# EAGLE library part MAX86916EFD+T (library max86916)
Max86916 eagle component, it's a ppg sensor with 4 different leds
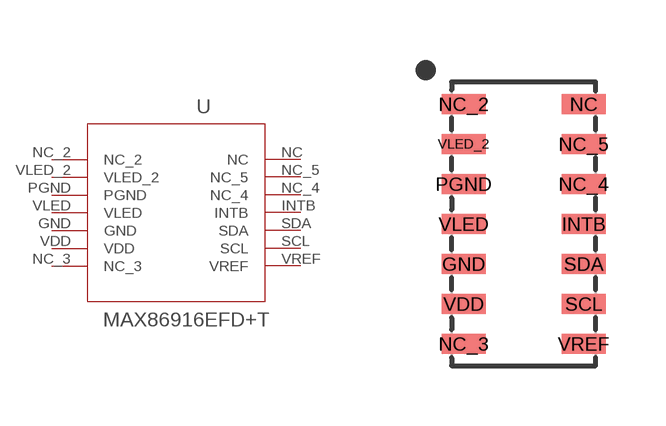
[diagram p0: symbol with the pads of 21-100325_90-100122; footprint 21-100325_90-100122]

Designator prefix U

## MAX86916EFD+T (BUILT_BY: EMA_Rebekah; COPYRIGHT: Copyright (C) 2018 Accelerated Designs. All rights reserved; MANUFACTURER_PART_NUMBER: MAX86916EFD+T; SOURCELIBRARY: Maxim_2020-05-05; VENDOR: Maxim Integrated Products)  [21-100325_90-100122]
GND  GND  pwr
INTB  INTB  out
NC  NC  nc
NC_2  NC_2  nc
NC_3  NC_3  nc
NC_4  NC_4  nc
NC_5  NC_5  nc
PGND  PGND  pwr
SCL  SCL  in
SDA  SDA
VDD  VDD  pwr
VLED  VLED  in
VLED_2  VLED_2  in
VREF  VREF  pas

## Footprint 21-100325_90-100122 (pad centres in mm)
smd 1.1 x 0.5: GND -1.5,-1; INTB 1.5,0; NC 1.5,3; NC_2 -1.5,3; NC_3 -1.5,-3; NC_4 1.5,1; NC_5 1.5,2; PGND -1.5,1; SCL 1.5,-2; SDA 1.5,-1; VDD -1.5,-2; VLED -1.5,0; VLED_2 -1.5,2; VREF 1.5,-3